# EAGLE library part T1M-05-F-SH-L-K (library bc_custom)
T1M 1MM TERMINAL STRIP
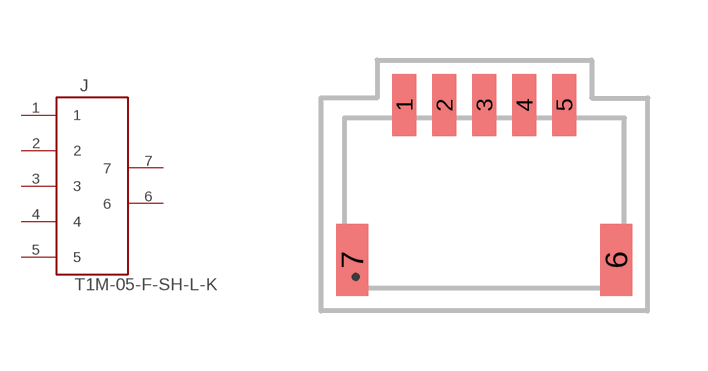
[diagram p3: symbol with the pads of T1M-05-F-SH-L-K; footprint T1M-05-F-SH-L-K]

Designator prefix J

## T1M-05-F-SH-L-K  [T1M-05-F-SH-L-K]
1  1
2  2
3  3
4  4
5  5
6  6
7  7

## Footprint T1M-05-F-SH-L-K (pad centres in mm)
smd 0.6 x 1.55: 1 -1.635,4.953; 2 -0.635,4.953; 3 0.365,4.953; 4 1.365,4.953; 5 2.365,4.953
smd 0.8 x 1.8: 6 3.665,1.078; 7 -2.935,1.078